# EAGLE library part HA3-5002-5Z (library Intersil_By_element14_Batch_1)
Output Current Buffer
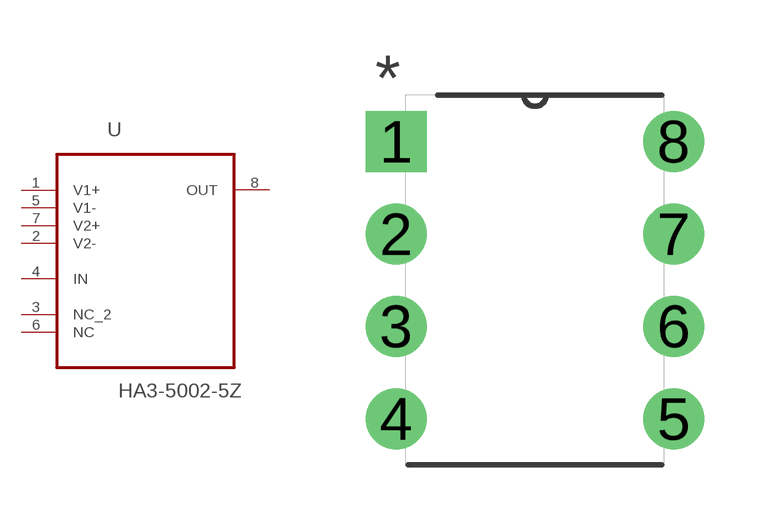
[diagram p92: symbol with the pads of DIP254P762X533-8; footprint DIP254P762X533-8]

Designator prefix U

## HA3-5002-5Z (MPN: HA3-5002-5Z; OC_FARNELL: 1018169; OC_NEWARK: 79K6746; PACKAGE: PDIP-8; SUPPLIER: INTERSIL)  [DIP254P762X533-8]
1  V1+  pwr
2  V2-  pwr
3  NC_2  nc
4  IN  in
5  V1-  pwr
6  NC  nc
7  V2+  pwr
8  OUT  out

## Footprint DIP254P762X533-8 (pad centres in mm)
drill 1.118 square: 1 -7.62,7.62
drill 1.118: 2 -7.62,5.08; 3 -7.62,2.54; 4 -7.62,0; 5 0,0; 6 0,2.54; 7 0,5.08; 8 0,7.62